# Altium schematic symbol library BQ21040.SchLib: 1 symbol
Pins are listed as number, name and electrical type; pins without a type are passive.

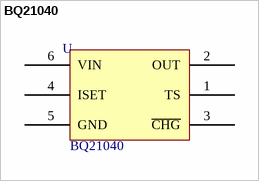
[diagram p0: symbol BQ21040]

## BQ21040
designator U  value BQ21040  (hidden comment: *)
Manufacturer Code: BQ21040DBVT; Manufacturer: Texas Instruments; Output Current: 800mA; Input Voltage: 30V Max.; Output Voltage: 4.2V; Comments: Li-Ion Charger IC; Farnell Code: 2576287; Unit Price: 1,27 €; MOQ: 1
footprint SOT23-6
pins: 1 TS, 2 OUT, 3 ~{CHG}, 4 ISET, 5 GND, 6 VIN